# Altium footprint library PcbLib.PcbLib: 15 footprints
Each footprint in its own frame and in the unit in brackets; x right, y up, seen from the top. Pads: shape width x height; smd on the part's side, far side on the other; paste and mask are expansions set on the pad; w line width, h text height; cw(c..) or ccw(c..) is an arc to the next point about the centre after c.
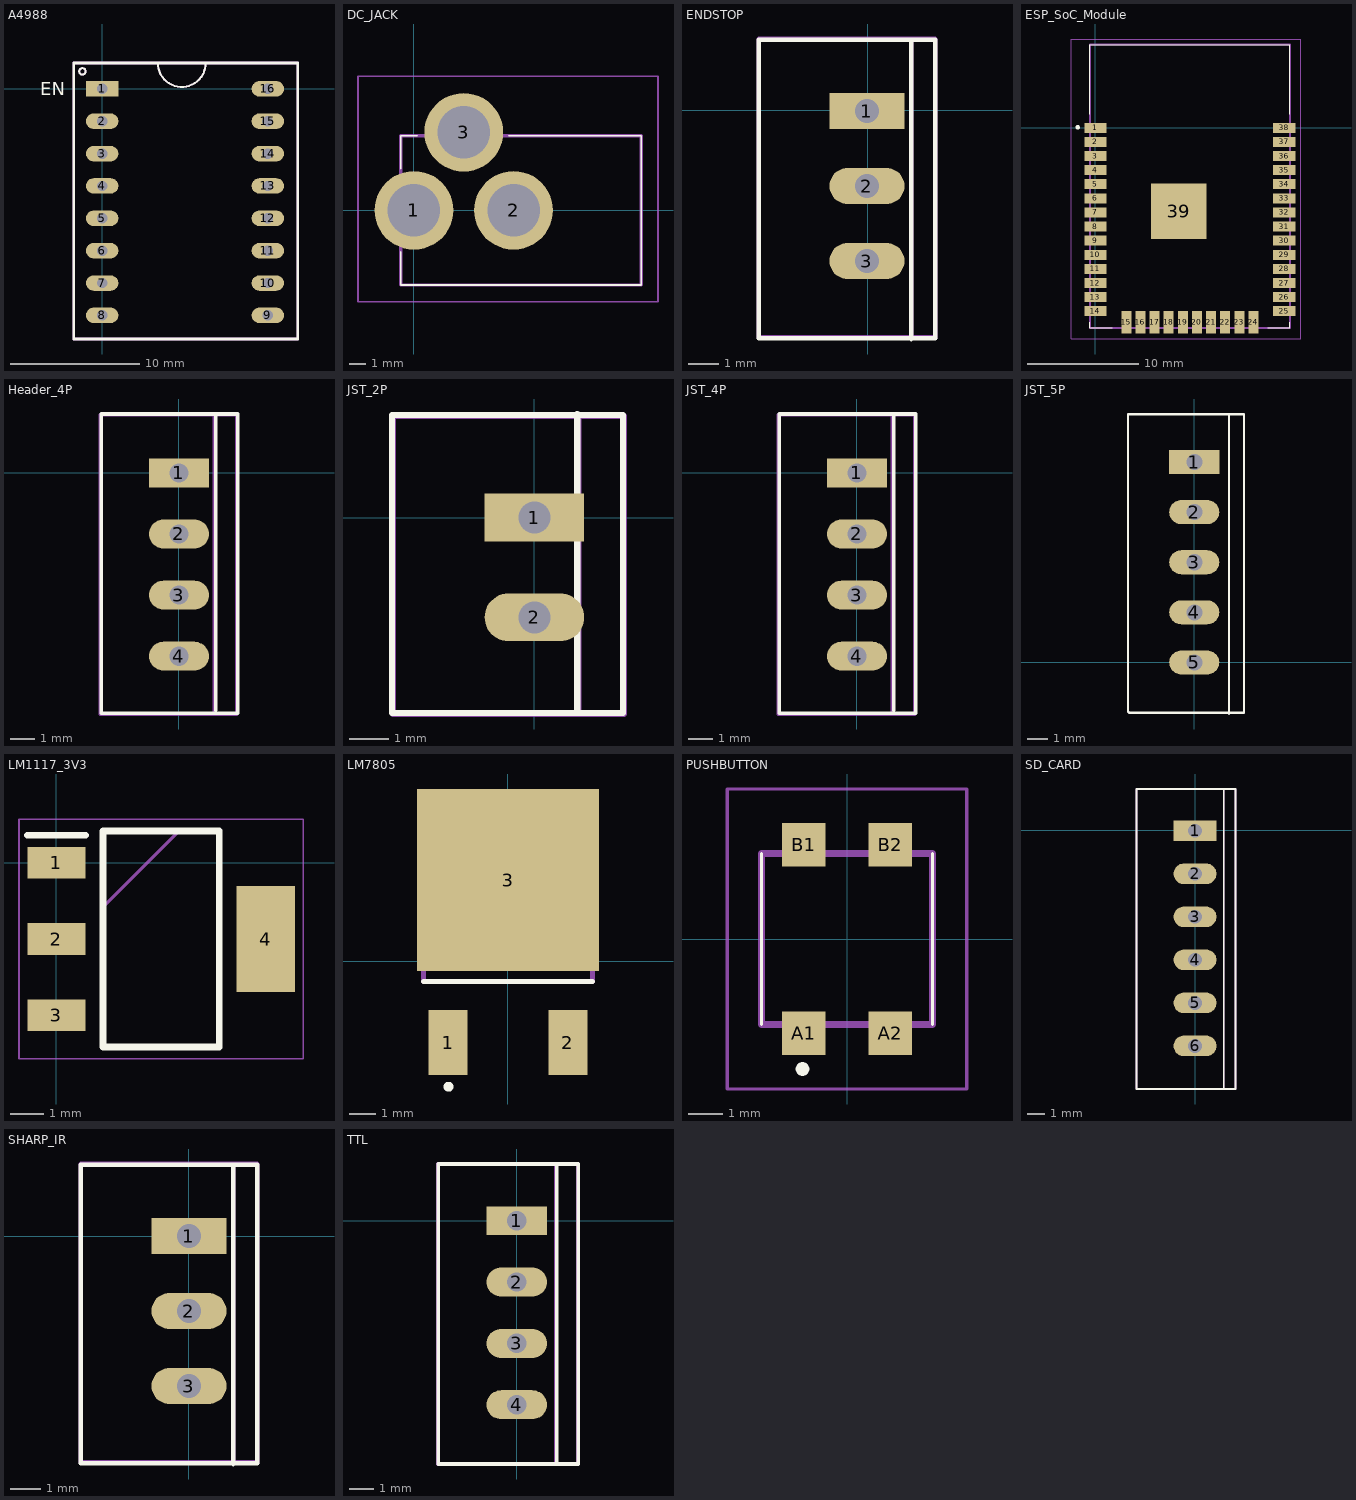
[diagram p0: the footprints below, top view; thin cyan lines are the x and y axes]

## A4988 [mm]
pads (16):
  rect 2.5x1.2 hole 0.8: 1(0,0)
  oval 2.5x1.2 hole 0.8: 2(0,-2.5) 3(0,-5) 4(0,-7.5) 5(0,-10) 6(0,-12.5) 7(0,-15) 8(0,-17.5) 9(12.8,-17.5) 10(12.8,-15) 11(12.8,-12.5) 12(12.8,-10) 13(12.8,-7.5) 14(12.8,-5) 15(12.8,-2.5) 16(12.8,0)
Top Overlay:
  circle w0.152: c-1.525,1.35 r0.25
  lines w0.152: 4.296,2.024 ccw(c6.15,2) 8.004,2.026
  lines w0.2: -2.2,-19.325 -2.2,2 15.1,2 15.1,-19.325 -2.2,-19.325
  text "EN" at -4.773,-0.473 h1.02
Mechanical 1:
  circle w0.152: c-1.525,1.35 r0.25
  lines w0.152: 4.296,2.024 ccw(c6.15,2) 8.004,2.026
  lines w0.2: -2.2,-19.325 -2.2,2 15.1,2 15.1,-19.325 -2.2,-19.325
3D body "User Library-A4988.step": height 10.17, standoff 0.01, extent -1.295,-18.86 13.945,1.46

## DC_JACK [mm]
pads (3):
  round 4.743 hole 3.162: 1(0,0) 2(6,0) 3(3,4.7)
Top Overlay:
  lines w0.1: -0.8,-2.5 -0.8,-4.5 13.7,-4.5 13.7,4.5 5.7,4.5 ; -0.8,2.5 -0.8,4.5 0.2,4.5
Mechanical 13:
  lines w0.2: -0.8,-4.5 -0.8,4.5 13.7,4.5 13.7,-4.5 -0.8,-4.5
Mechanical 15:
  lines w0.1: -3.372,-5.5 -3.372,8.072 14.7,8.072 14.7,-5.5 -3.372,-5.5
3D body "PRT-00119.stp": height 11.25, standoff -3.25, extent -1.046,-4.344 13.454,5.206

## ENDSTOP [mm]
pads (3):
  rect 2.5x1.2 hole 0.8: 1(-0.025,-0.025)
  oval 2.5x1.2 hole 0.8: 2(-0.025,-2.525) 3(-0.025,-5.025)
Top Overlay:
  lines w0.152: 1.45,-7.625 1.45,2.3 ; -3.63,-7.6 2.25,-7.6 2.25,2.35 -3.63,2.35 -3.63,-7.6
Mechanical 1:
  lines w0.152: 1.45,-7.6 1.45,2.325 ; -3.63,-7.575 2.25,-7.575 2.25,2.375 -3.63,2.375 -3.63,-7.575
3D body "User Library-B3B-XH_mod.step": height 7.01, standoff -3.29, extent -3.55,-7.55 2.2,2.35

## ESP_SoC_Module [mm]
pads (39):
  rect 2x0.9 smd: 1(0,0) 2(0,-1.27) 3(0,-2.54) 4(0,-3.81) 5(0,-5.08) 6(0,-6.35) 7(0,-7.62) 8(0,-8.89) 9(0,-10.16) 10(0,-11.43) 11(0,-12.7) 12(0,-13.97) 13(0,-15.24) 14(0,-16.51) 25(17,-16.51) 26(17,-15.24) 27(17,-13.97) 28(17,-12.7) 29(17,-11.43) 30(17,-10.16) 31(17,-8.89) 32(17,-7.62) 33(17,-6.35) 34(17,-5.08) 35(17,-3.81) 36(17,-2.54) 37(17,-1.27) 38(17,0)
  rect 0.9x2 smd: 15(2.785,-17.51) 16(4.055,-17.51) 17(5.325,-17.51) 18(6.595,-17.51) 19(7.865,-17.51) 20(9.135,-17.51) 21(10.405,-17.51) 22(11.675,-17.51) 23(12.945,-17.51) 24(14.215,-17.51)
  rect 5x5 smd: 39(7.5,-7.5)
Top Overlay:
  lines w0.1: -0.5,-17.51 -0.5,-18.01 1.5,-18.01 ; -0.5,1.24 -0.5,7.49 17.5,7.49 17.5,1.24 ; 15.5,-18.01 17.5,-18.01 17.5,-17.51
  lines w0.2: -1.6,-0.06 ccw(c-1.6,0.04) -1.6,0.14 ccw(c-1.6,0.04) -1.6,-0.06
Mechanical 13:
  lines w0.2: -0.5,-18.01 -0.5,7.49 17.5,7.49 17.5,-18.01 -0.5,-18.01
Mechanical 15:
  lines w0.1: -2.2,-19.01 -2.2,7.99 18.5,7.99 18.5,-19.01 -2.2,-19.01
3D body "ESP-WROOM-32__16MB_.stp": height 3.1, standoff 0, extent -0.5,-17.98 17.5,7.52

## Header_4P [mm]
pads (4):
  rect 2.5x1.2 hole 0.8: 1(0,0)
  oval 2.5x1.2 hole 0.8: 2(0,-2.54) 3(0,-5.08) 4(0,-7.62)
Top Overlay:
  lines w0.152: 1.525,-9.875 1.525,2.425 ; -3.225,-10 -3.225,2.45 2.45,2.45 2.45,-10 -3.225,-10
Mechanical 1:
  lines w0.152: 1.475,-9.9 1.475,2.4 ; -3.275,-10.025 -3.275,2.425 2.4,2.425 2.4,-10.025 -3.275,-10.025
3D body "User Library-zl262-4s_p2-54_l10-66_w2-54_h8-5.sldprt": height 11.51, standoff 0.01, extent -1.295,-9.205 1.245,1.455

## JST_2P [mm]
pads (2):
  rect 2.5x1.2 hole 0.8: 1(0,0)
  oval 2.5x1.2 hole 0.8: 2(0,-2.5)
Top Overlay:
  lines w0.152: 1.075,-4.9 1.075,2.6 ; -3.575,-4.9 -3.575,2.575 2.225,2.575 2.225,-4.9 -3.575,-4.9
Mechanical 1:
  lines w0.152: 1.1,-4.925 1.1,2.575 ; -3.55,-4.925 -3.55,2.55 2.25,2.55 2.25,-4.925 -3.55,-4.925
3D body "User Library-B2B-XH_mod.step": height 7.01, standoff -3.29, extent -3.5,-4.9 2.25,2.5

## JST_4P [mm]
pads (4):
  rect 2.5x1.2 hole 0.8: 1(0,0)
  oval 2.5x1.2 hole 0.8: 2(0,-2.54) 3(0,-5.08) 4(0,-7.62)
Top Overlay:
  lines w0.152: 1.525,-9.875 1.525,2.425 ; -3.225,-10 2.45,-10 2.45,2.45 -3.225,2.45 -3.225,-10
Mechanical 1:
  lines w0.152: 1.475,-9.9 1.475,2.4 ; -3.275,-10.025 2.4,-10.025 2.4,2.425 -3.275,2.425 -3.275,-10.025
3D body "User Library-B4B-XH_mod.step": height 7.01, standoff -3.29, extent -3.35,-10.025 2.4,2.375

## JST_5P [mm]
pads (5):
  rect 2.5x1.2 hole 0.8: 1(0,10)
  oval 2.5x1.2 hole 0.8: 2(0,7.5) 3(0,5) 4(0,2.5) 5(0,0)
Top Overlay:
  lines w0.1: 1.725,-2.575 1.725,12.35 ; 1.725,-2.55 1.725,12.375 ; -3.3,-2.475 -3.25,-2.525 2.425,-2.525 2.475,-2.525 2.475,12.375 -3.3,12.375 -3.3,-2.475 ; -3.3,-2.45 -3.25,-2.5 2.425,-2.5 2.475,-2.5 2.475,12.4 -3.3,12.4 -3.3,-2.45
3D body "User Library-B5B-XH_mod.step": height 6.91, standoff -3.39, extent -3.3,-2.475 2.45,12.425

## LM1117_3V3 [mm]
pads (4):
  rect 1.75x0.95 smd: 1(0,0) 2(0,-2.3) 3(0,-4.6)
  rect 1.75x3.2 smd: 4(6.3,-2.3)
Top Overlay:
  lines w0.2: -0.875,0.825 0.875,0.825 ; 1.4,-5.55 4.9,-5.55 4.9,0.95 1.4,0.95 1.4,-5.55
Mechanical 13:
  lines w0.1: 1.4,-1.35 3.7,0.95 ; 1.4,-5.55 4.9,-5.55 4.9,0.95 1.4,0.95 1.4,-5.55
Mechanical 15:
  lines w0.05: -1.125,-5.9 7.425,-5.9 7.425,1.3 -1.125,1.3 -1.125,-5.9
3D body "LM1117IMPX3.3_NOPB.stp": height 1.68, standoff 0, extent -0.35,-5.55 6.65,0.95

## LM7805 [mm]
pads (3):
  rect 1.5x2.5 smd: 1(-2.3,-3.125) 2(2.3,-3.125)
  rect 7x7 smd: 3(0,3.125)
Top Overlay:
  circle w0.2: c-2.288,-4.82 r0.089
  lines w0.2: -3.25,-0.775 3.25,-0.775
Mechanical 13:
  lines w0.2: -3.25,-0.775 3.25,-0.775 3.25,4.725 -3.25,4.725 -3.25,-0.775
3D body "BA17805FP-E2.stp": height 2.3, standoff 0, extent -3.25,-3.895 3.25,5.605

## PCBComponent_1 [mm]
Mechanical 1:
  text "1" at 11.867,22.625 h2.5
  text "1" at 7.2,23.914 h2.5
  text "2" at 11.867,17.631 h2.5
  text "2" at 7.039,18.919 h2.5
  text "3" at 11.867,12.475 h2.5
  text "3" at 7.039,13.764 h2.5
  text "4" at 11.867,7.481 h2.5
  text "4" at 7.039,8.608 h2.5

## PUSHBUTTON [mm]
pads (4):
  rect 1.27x1.27 smd: A1(-1.27,-2.75) A2(1.27,-2.75) B1(-1.27,2.75) B2(1.27,2.75)
Top Overlay:
  lines w0.1: -2.5,-2.5 -2.5,2.5 ; 2.5,-2.5 2.5,2.5
  lines w0.2: -1.4,-3.8 ccw(c-1.3,-3.8) -1.2,-3.8 ccw(c-1.3,-3.8) -1.4,-3.8
Mechanical 13:
  lines w0.2: -2.5,-2.5 2.5,-2.5 2.5,2.5 -2.5,2.5 -2.5,-2.5
Mechanical 15:
  lines w0.1: -3.5,-4.385 3.5,-4.385 3.5,4.385 -3.5,4.385 -3.5,-4.385
3D body "7914G-1-000E.stp": height 4.29, standoff 0, extent -2.5,-3.258 2.5,3.258

## SD_CARD [mm]
pads (6):
  rect 2.5x1.2 hole 0.8: 1(0,-0.025)
  oval 2.5x1.2 hole 0.8: 2(0,-2.525) 3(0,-5.025) 4(0,-7.525) 5(0,-10.025) 6(0,-12.525)
Top Overlay:
  lines w0.1: 1.668,-15.028 1.668,2.397 ; -3.4,-15.025 -3.4,2.4 2.35,2.4 2.35,-15.025 -3.4,-15.025
Mechanical 1:
  lines w0.1: 1.668,-15.028 1.668,2.397 ; -3.4,-15.025 -3.4,2.4 2.35,2.4 2.35,-15.025 -3.4,-15.025
3D body "User Library-B6B-XH_mod.step": height 7.01, standoff -3.29, extent -3.4,-15.05 2.35,2.35

## SHARP_IR [mm]
pads (3):
  rect 2.5x1.2 hole 0.8: 1(0,0)
  oval 2.5x1.2 hole 0.8: 2(0,-2.5) 3(0,-5)
Top Overlay:
  lines w0.152: 1.475,-7.6 1.475,2.325 ; -3.605,-7.575 2.275,-7.575 2.275,2.375 -3.605,2.375 -3.605,-7.575
Mechanical 1:
  lines w0.152: 1.475,-7.575 1.475,2.35 ; -3.605,-7.55 2.275,-7.55 2.275,2.4 -3.605,2.4 -3.605,-7.55
3D body "User Library-B3B-XH_mod.step": height 7.01, standoff -3.29, extent -3.525,-7.525 2.225,2.375

## TTL [mm]
pads (4):
  rect 2.5x1.2 hole 0.8: 1(0,0)
  oval 2.5x1.2 hole 0.8: 2(0,-2.54) 3(0,-5.08) 4(0,-7.62)
Top Overlay:
  lines w0.152: 1.65,-10.025 1.65,2.3 ; -3.25,-10.075 -3.25,2.35 2.55,2.35 2.55,-10.075 -3.25,-10.075
Mechanical 1:
  lines w0.152: 1.625,-10.025 1.625,2.3 ; -3.275,-10.075 -3.275,2.35 2.525,2.35 2.525,-10.075 -3.275,-10.075
3D body "User Library-B4B-XH_mod.step": height 7.01, standoff -3.29, extent -3.3,-10.125 2.45,2.275